# Altium footprint library CT31510.PcbLib: 1 footprints
Each footprint in its own frame and in the unit in brackets; x right, y up, seen from the top. Pads: shape width x height; smd on the part's side, far side on the other; paste and mask are expansions set on the pad; w line width, h text height; cw(c..) or ccw(c..) is an arc to the next point about the centre after c.
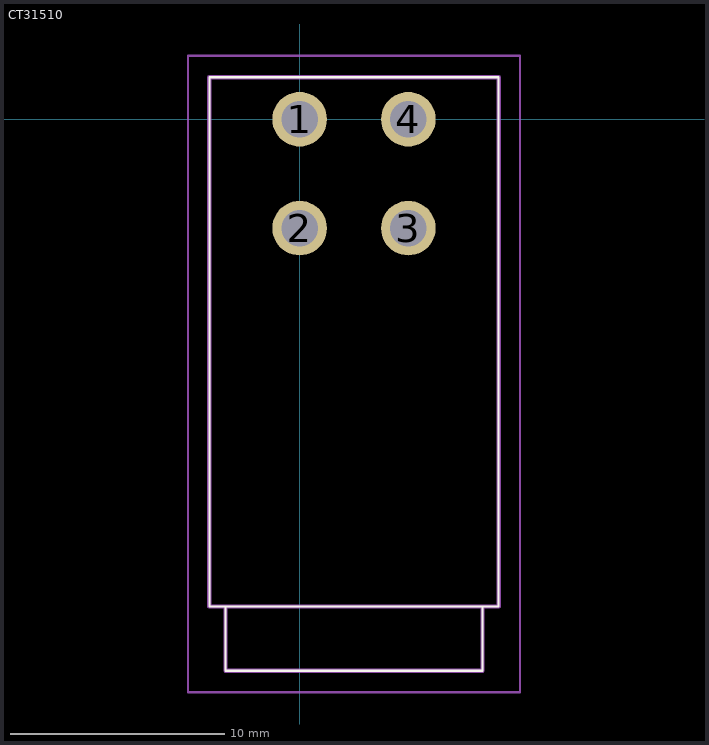
[diagram p0: the footprint, top view; thin cyan lines are the x and y axes]

## CT31510 [mm]
pads (4):
  round 2.55 hole 1.7: 1(0,0) 2(0,-5.08) 3(5.08,-5.08) 4(5.08,0)
Top Overlay:
  lines w0.1: -3.46,-22.74 -3.46,-25.74 8.54,-25.74 8.54,-22.74 ; -4.21,-22.74 -4.21,1.96 9.29,1.96 9.29,-22.74 -4.21,-22.74
Mechanical 15:
  lines w0.2: -3.46,-22.74 -3.46,-25.74 8.54,-25.74 8.54,-22.74 ; -4.21,-22.74 -4.21,1.96 9.29,1.96 9.29,-22.74 -4.21,-22.74
Mechanical 20:
  lines w0.1: -5.21,-26.74 -5.21,2.96 10.29,2.96 10.29,-26.74 -5.21,-26.74